# Altium footprint library Memory.PcbLib: 1 footprints
Each footprint in its own frame and in the unit in brackets; x right, y up, seen from the top. Pads: shape width x height; smd on the part's side, far side on the other; paste and mask are expansions set on the pad; w line width, h text height; cw(c..) or ccw(c..) is an arc to the next point about the centre after c.
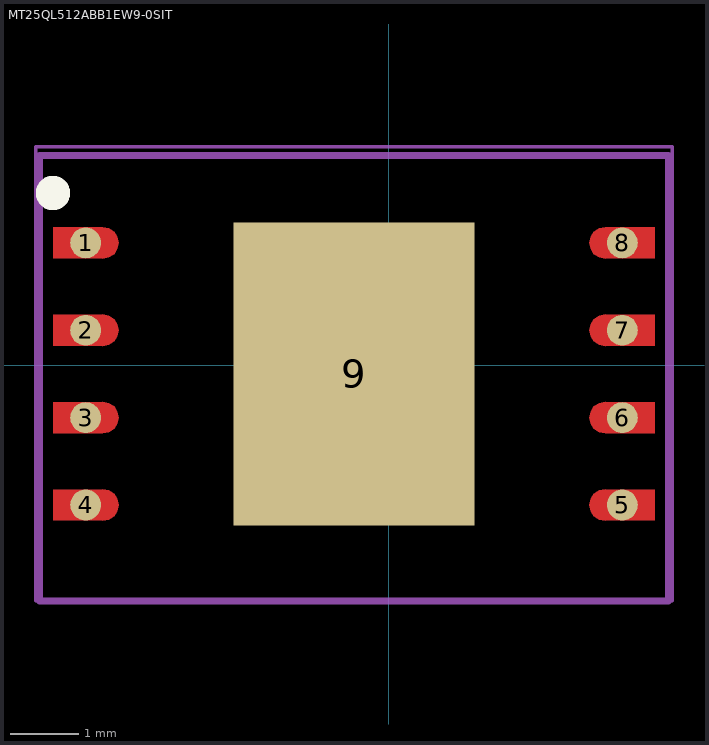
[diagram p0: the footprint, top view; thin cyan lines are the x and y axes]

## MT25QL512ABB1EW9-0SIT [mm] "NOR Flash SPI FLASH NOR SLC 128MX4 WPDFN"
height 0.051
pads (9):
  round 0.45 smd: 1(-4.408,1.778) 2(-4.408,0.508) 3(-4.408,-0.762) 4(-4.408,-2.032) 5(3.392,-2.032) 6(3.392,-0.762) 7(3.392,0.508) 8(3.392,1.778)
  rect 3.5x4.4 smd: 9(-0.508,-0.127)
Top Layer:
  region: -4.883,2.003 -4.158,2.007 -4.07,1.99 -3.996,1.94 -3.946,1.866 -3.929,1.778 -3.946,1.69 -3.996,1.616 -4.07,1.566 -4.158,1.549 -4.158,1.553 -4.883,1.553
  region: -4.883,0.733 -4.158,0.737 -4.07,0.72 -3.996,0.67 -3.946,0.596 -3.929,0.508 -3.946,0.42 -3.996,0.346 -4.07,0.296 -4.158,0.279 -4.158,0.283 -4.883,0.283
  region: -4.883,-0.537 -4.158,-0.533 -4.07,-0.55 -3.996,-0.6 -3.946,-0.674 -3.929,-0.762 -3.946,-0.85 -3.996,-0.924 -4.07,-0.974 -4.158,-0.991 -4.158,-0.987 -4.883,-0.987
  region: -4.883,-1.807 -4.158,-1.803 -4.07,-1.82 -3.996,-1.87 -3.946,-1.944 -3.929,-2.032 -3.946,-2.12 -3.996,-2.194 -4.07,-2.244 -4.158,-2.261 -4.158,-2.257 -4.883,-2.257
  region: 3.867,-2.257 3.142,-2.261 3.054,-2.244 2.98,-2.194 2.93,-2.12 2.913,-2.032 2.93,-1.944 2.98,-1.87 3.054,-1.82 3.142,-1.803 3.142,-1.807 3.867,-1.807
  region: 3.867,-0.987 3.142,-0.991 3.054,-0.974 2.98,-0.924 2.93,-0.85 2.913,-0.762 2.93,-0.674 2.98,-0.6 3.054,-0.55 3.142,-0.533 3.142,-0.537 3.867,-0.537
  region: 3.867,0.283 3.142,0.279 3.054,0.296 2.98,0.346 2.93,0.42 2.913,0.508 2.93,0.596 2.98,0.67 3.054,0.72 3.142,0.737 3.142,0.733 3.867,0.733
  region: 3.867,1.553 3.142,1.549 3.054,1.566 2.98,1.616 2.93,1.69 2.913,1.778 2.93,1.866 2.98,1.94 3.054,1.99 3.142,2.007 3.142,2.003 3.867,2.003
Top Overlay:
  circle w0.25: c-4.883,2.503 r0.125
Mechanical 15:
  lines w0.1: -5.08,-3.429 4.064,-3.429 4.064,3.048 -5.08,3.048 -5.08,-3.429
Mechanical 20:
  lines w0.05: -5.133,-3.427 4.117,-3.427 4.117,3.173 -5.133,3.173 -5.133,-3.427
3D body "MT25QL512ABB1EW9-0SIT.stp": height 0.8, standoff 0, extent -4.558,-3.175 3.542,2.825